# Altium footprint library PWM_controller.PcbLib: 1 footprints
Each footprint in its own frame and in the unit in brackets; x right, y up, seen from the top. Pads: shape width x height; smd on the part's side, far side on the other; paste and mask are expansions set on the pad; w line width, h text height; cw(c..) or ccw(c..) is an arc to the next point about the centre after c.
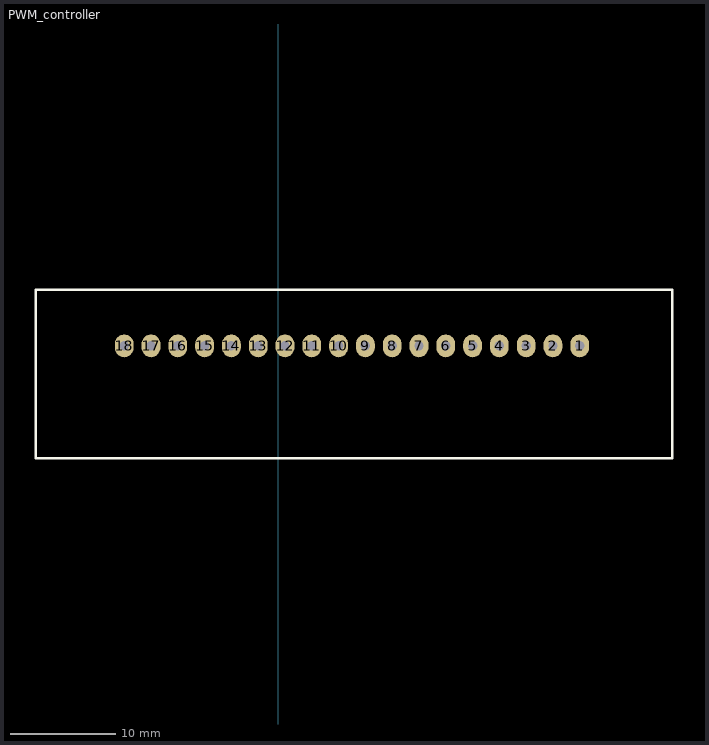
[diagram p0: the footprint, top view; thin cyan lines are the x and y axes]

## PWM_controller [mil]
pads (18):
  oval 70x85 hole 35: 1(1125,-1930) 2(1025,-1930) 3(925,-1930) 4(825,-1930) 5(725,-1930) 6(625,-1930) 7(525,-1930) 8(425,-1930) 9(325,-1930) 10(225,-1930) 11(125,-1930) 12(25,-1930) 13(-75,-1930) 14(-175,-1930) 15(-275,-1930) 16(-375,-1930) 17(-475,-1930) 18(-575,-1930)
Top Overlay:
  lines w10: -905,-2350 1470,-2350 1470,-1720 -905,-1720 -905,-2350
3D body "PCB1_PWM.step": height 2330, standoff -135.27, extent -896.1,-2351.85 1466.1,-1720